# Altium footprint library SAMTEC_TSW-104-07-F-D.PcbLib: 1 footprints
Each footprint in its own frame and in the unit in brackets; x right, y up, seen from the top. Pads: shape width x height; smd on the part's side, far side on the other; paste and mask are expansions set on the pad; w line width, h text height; cw(c..) or ccw(c..) is an arc to the next point about the centre after c.
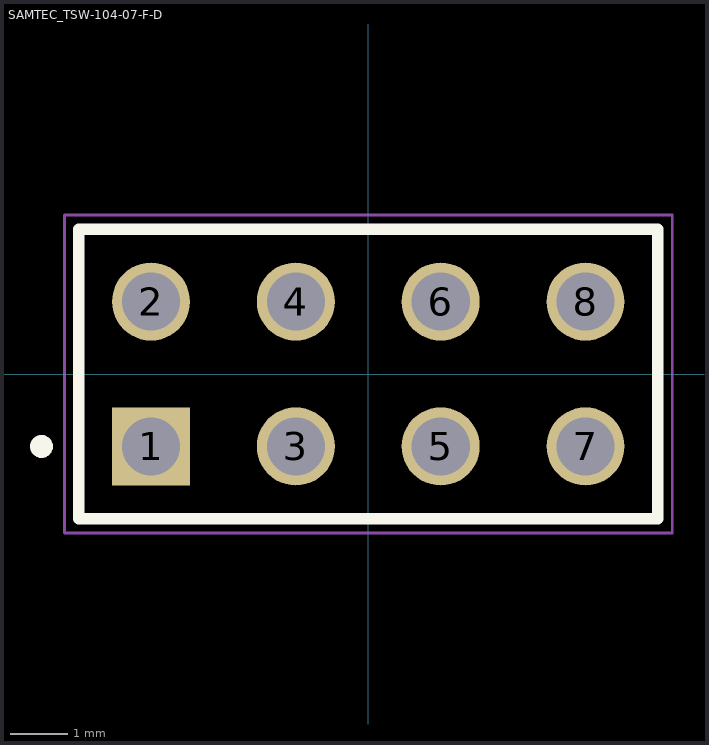
[diagram p0: the footprint, top view; thin cyan lines are the x and y axes]

## SAMTEC_TSW-104-07-F-D [mm]
pads (8):
  rect 1.37x1.37 hole 1.02: 1(-3.81,-1.27)
  round 1.37 hole 1.02: 2(-3.81,1.27) 3(-1.27,-1.27) 4(-1.27,1.27) 5(1.27,-1.27) 6(1.27,1.27) 7(3.81,-1.27) 8(3.81,1.27)
Top Overlay:
  circle w0.2: c-5.73,-1.27 r0.1
  lines w0.2: -5.08,-2.54 5.08,-2.54 5.08,2.54 -5.08,2.54 -5.08,-2.54
Mechanical 13:
  circle w0.2: c-5.73,-1.27 r0.1
  lines w0.1: -5.08,-2.54 -5.08,2.54 ; -5.08,-2.54 5.08,-2.54 ; -5.08,-2.54 -5.08,2.54 ; -5.08,2.54 5.08,2.54 ; -5.08,2.54 5.08,2.54 ; 5.08,-2.54 5.08,2.54 ; 5.08,-2.54 5.08,2.54
Mechanical 15:
  lines w0.05: -5.33,-2.79 5.33,-2.79 5.33,2.79 -5.33,2.79 -5.33,-2.79
3D body "TSW-104-07-F-D.stp": height 8.38, standoff -2.54, extent -5.08,-2.54 5.08,2.54